# Altium schematic symbol library LM2673.SchLib: 1 symbol
Pins are listed as number, name and electrical type; pins without a type are passive.

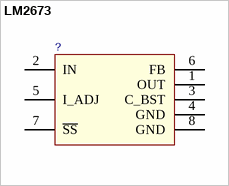
[diagram p0: symbol LM2673]

## LM2673
designator ?  (value not drawn)
PackageDocument: 1996; ComponentLink2DescA4: Datasheet; ComponentLink3DescAC: URL Link1; PackageReference: TA07B
footprint TO263-7
pins: 1 OUT, 2 IN, 3 C_BST, 4 GND, 5 I_ADJ, 6 FB, 7 ~{SS}, 8 GND